# Altium footprint library PCB库.PcbLib: 17 footprints (part 1 of 2)
Each footprint in its own frame and in the unit in brackets; x right, y up, seen from the top. Pads: shape width x height; smd on the part's side, far side on the other; paste and mask are expansions set on the pad; w line width, h text height; cw(c..) or ccw(c..) is an arc to the next point about the centre after c.
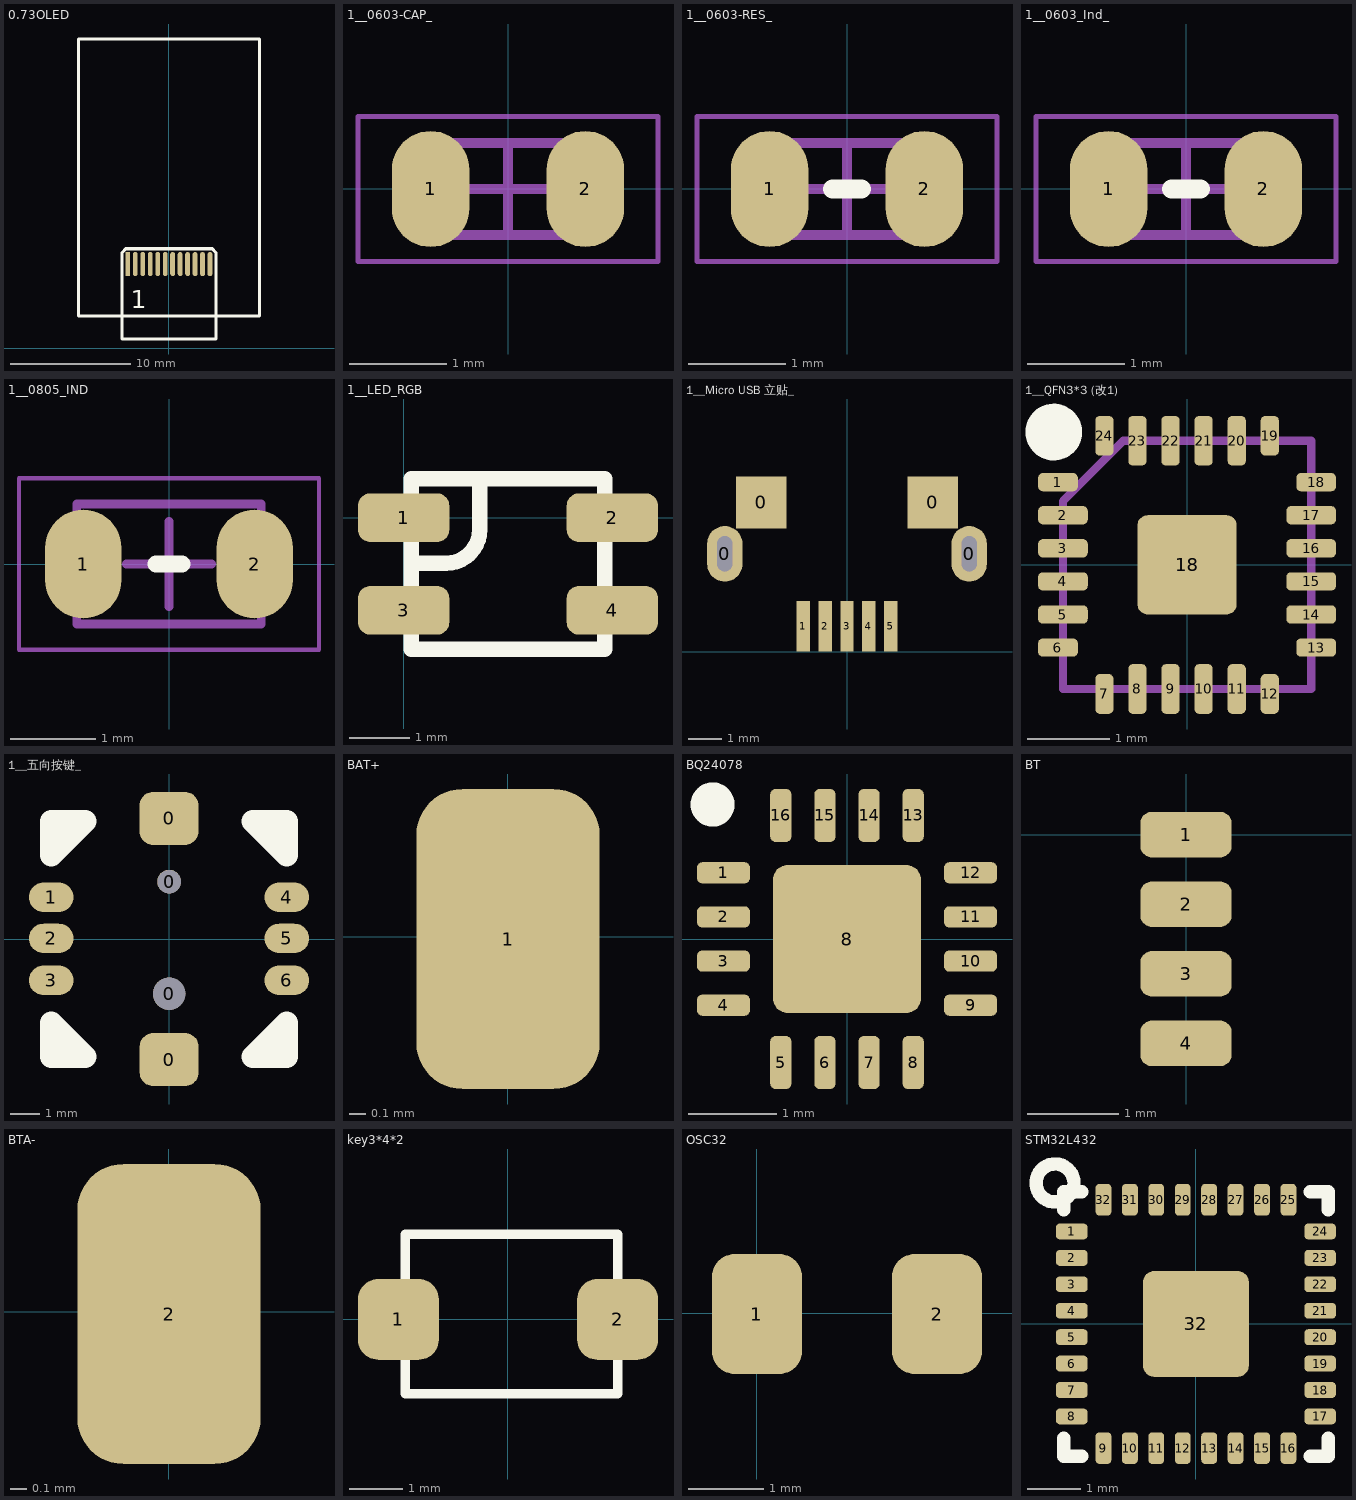
[diagram p0: the footprints below, top view; thin cyan lines are the x and y axes]

## 0.73OLED [mm]
pads (12):
  rect 0.4x2 smd: 1(-3.41,6.985)
  oval 0.4x2 smd: 2(-2.79,6.985) 3(-2.17,6.985) 4(-1.55,6.985) 5(-0.93,6.985) 6(-0.31,6.985) 7(0.31,6.985) 8(0.93,6.985) 9(1.55,6.985) 10(2.17,6.985) 11(2.79,6.985) 12(3.41,6.985)
Top Overlay:
  lines w0.254: -7.493,2.667 -7.493,25.667 7.507,25.667 7.507,2.667 -7.493,2.667 ; -3.886,0.762 -3.886,7.95 -3.581,8.255 0.007,8.255 3.595,8.255 3.9,7.95 3.9,0.762 -3.886,0.762
  text "1" at -3.175,3.302 h1.52

## 1__0603-CAP_ [mm]
pads (2):
  oval 0.8x1.2 smd: 1(-0.8,0) 2(0.8,0)
Mechanical 13:
  lines w0.1: -0.875,-0.475 0.875,-0.475 0.875,0.475 -0.875,0.475 -0.875,-0.475
Mechanical 15:
  lines w0.05: -1.55,-0.75 1.55,-0.75 1.55,0.75 -1.55,0.75 -1.55,-0.75
  lines w0.1: -0.475,0 0.475,0 ; 0,-0.475 0,0.475
3D body: height 0.85, standoff 0, extent 0.525,-0.475 0.875,0.475
3D body: height 0.85, standoff 0, extent -0.875,-0.475 -0.525,0.475
3D body: height 0.85, standoff 0, extent -0.525,-0.475 0.525,0.475

## 1__0603-RES_ [mm]
pads (2):
  oval 0.8x1.2 smd: 1(-0.8,0) 2(0.8,0)
Top Overlay:
  lines w0.2: -0.15,0 0.15,0
Mechanical 13:
  lines w0.1: -0.85,-0.475 0.85,-0.475 0.85,0.475 -0.85,0.475 -0.85,-0.475
Mechanical 15:
  lines w0.05: -1.55,-0.75 -1.55,0.75 1.55,0.75 1.55,-0.75 -1.55,-0.75
  lines w0.1: -0.475,0 0.475,0 ; 0,-0.475 0,0.475
3D body "R0603.STEP": height 0.45, standoff 0, extent -0.8,-0.4 0.8,0.4

## 1__0603_Ind_ [mm]
pads (2):
  oval 0.8x1.2 smd: 1(-0.8,0) 2(0.8,0)
Top Overlay:
  lines w0.2: -0.15,0 0.15,0
Mechanical 13:
  lines w0.1: -0.85,-0.475 0.85,-0.475 0.85,0.475 -0.85,0.475 -0.85,-0.475
Mechanical 15:
  lines w0.05: -1.55,-0.75 -1.55,0.75 1.55,0.75 1.55,-0.75 -1.55,-0.75
  lines w0.1: -0.475,0 0.475,0 ; 0,-0.475 0,0.475
3D body "R0603.STEP": height 0.45, standoff 0, extent -0.8,-0.4 0.8,0.4

## 1__0805_IND [mm]
pads (2):
  oval 0.889x1.27 smd: 1(-1,0) 2(1,0)
Top Overlay:
  lines w0.2: -0.15,0 0.15,0
Mechanical 13:
  lines w0.1: -1.075,-0.7 -1.075,0.7 1.075,0.7 1.075,-0.7 -1.075,-0.7
Mechanical 15:
  lines w0.05: -1.75,-1 -1.75,1 1.75,1 1.75,-1 -1.75,-1
  lines w0.1: -0.5,0 0.5,0 ; 0,-0.5 0,0.5
3D body "R0805.STEP": height 0.55, standoff 0, extent -1,-0.63 1,0.63

## 1__LED_RGB [mm]
pads (4):
  rrect50% 1.5x0.8 smd: 1(0,0) 2(3.429,0) 3(0,-1.524) 4(3.429,-1.524)
Top Overlay:
  lines w0.254: 0.127,-0.725 ccw(c0.152,-0.725) 0.152,-0.75 0.697,-0.75 ccw(c0.697,-0.197) 1.25,-0.197 1.25,0.635 ; 0.127,-2.159 3.302,-2.159 3.302,0.635 0.127,0.635 0.127,-2.159

## 1__Micro USB 立贴_ [mm]
height 1.5
pads (9):
  oval 1.05x1.65 hole 0.45 slot 1.05 at 90 deg: 0(-3.625,2.9) 0(3.625,2.9)
  rect 1.5x1.55 smd: 0(-2.55,4.425) 0(2.55,4.425)
  rect 0.4x1.51 smd: 1(-1.3,0.75) 2(-0.65,0.75) 3(0,0.75) 4(0.65,0.75) 5(1.3,0.75)

## 1__QFN3*3 (改1) [mm]
pads (25):
  rrect50% 0.48x0.22 smd: 1(-1.56,0.999) 6(-1.56,-0.999) 13(1.56,-0.999) 18(1.56,0.999)
  rrect50% 0.6x0.22 smd: 2(-1.5,0.6) 3(-1.5,0.2) 4(-1.5,-0.2) 5(-1.5,-0.6) 14(1.5,-0.6) 15(1.5,-0.2) 16(1.5,0.2) 17(1.5,0.6)
  rrect50% 0.22x0.48 smd: 7(-0.999,-1.56) 12(0.999,-1.56) 19(0.999,1.56) 24(-0.999,1.56)
  rrect50% 0.22x0.6 smd: 8(-0.6,-1.5) 9(-0.2,-1.5) 10(0.2,-1.5) 11(0.6,-1.5) 20(0.6,1.5) 21(0.2,1.5) 22(-0.2,1.5) 23(-0.6,1.5)
  rrect20% 1.2x1.2 smd: 18(0,0)
Top Overlay:
  circle w0.254: c-1.61,1.605 r0.128
  circle w0.254: c-1.61,1.605 r0.216
Mechanical 15:
  lines w0.1: -1.5,-1.5 0,-1.5 1.5,-1.5 1.5,0 1.5,1.5 0,1.5 -0.77,1.5 -1.5,0.77 -1.5,0 -1.5,-1.5

## 1__五向按键_ [mm]
pads (10):
  rrect50% 2x1.8 smd: 0(0,4.096) 0(0.004,-4.096)
  round 1.1 hole 1.1: 0(0.004,-1.861)
  round 0.8 hole 0.8: 0(0.004,1.949)
  oval 1.524x1 smd: 1(-4,1.419) 2(-4,0.022) 3(-4,-1.403) 4(4,1.419) 5(4,0.022) 6(4,-1.403)
Top Overlay:
  lines w0.762: -4,-4 -4,-2.85 -2.85,-4 -4,-4 ; -4,2.85 -4,4 -2.85,4 -4,2.85 ; 2.85,-4 4,-4 4,-2.85 2.85,-4 ; 2.85,4 4,2.85 4,4 2.85,4

## BAT+ [mm]
pads (1):
  rrect50% 1.1x1.8 smd: 1(0.003,-0.012)

## BQ24078 [mm] "充电芯片"
pads (17):
  rrect50% 0.6x0.24 smd: 1(-1.4,0.75) 2(-1.4,0.25) 3(-1.4,-0.25) 4(-1.4,-0.75) 9(1.4,-0.75) 10(1.4,-0.25) 11(1.4,0.25) 12(1.4,0.75)
  rrect50% 0.24x0.6 smd: 5(-0.75,-1.4) 6(-0.25,-1.4) 7(0.25,-1.4) 8(0.75,-1.4) 13(0.75,1.4) 14(0.25,1.4) 15(-0.25,1.4) 16(-0.75,1.4)
  rrect20% 1.68x1.68 smd: 8(0,0)
Top Overlay:
  circle w0.25: c-1.524,1.524 r0.125

## BT [mm]
pads (4):
  rrect50% 1x0.5 smd: 1(0,0) 2(0,-0.762) 3(0,-1.524) 4(0,-2.286)

## BTA- [mm]
pads (1):
  rrect50% 1.1x1.8 smd: 2(0.003,-0.012)

## key3*4*2 [mil]
pads (2):
  rrect50% 60x60 smd: 1(-81.24,0) 2(81.24,0)
Top Overlay:
  lines w7: -76.24,-55 81.24,-55 81.24,63.11 -76.24,63.11 -76.24,-55

## OSC32 [mm]
pads (2):
  rrect50% 1.2x1.6 smd: 1(0.003,-0.012) 2(2.403,-0.012)

## STM32L432 [mm]
pads (33):
  rrect50% 0.6x0.3 smd: 1(-2.35,1.75) 2(-2.35,1.25) 3(-2.35,0.75) 4(-2.35,0.25) 5(-2.35,-0.25) 6(-2.35,-0.75) 7(-2.35,-1.25) 8(-2.35,-1.75) 17(2.35,-1.75) 18(2.35,-1.25) 19(2.35,-0.75) 20(2.35,-0.25) 21(2.35,0.25) 22(2.35,0.75) 23(2.35,1.25) 24(2.35,1.75)
  rrect50% 0.3x0.6 smd: 9(-1.75,-2.35) 10(-1.25,-2.35) 11(-0.75,-2.35) 12(-0.25,-2.35) 13(0.25,-2.35) 14(0.75,-2.35) 15(1.25,-2.35) 16(1.75,-2.35) 25(1.75,2.35) 26(1.25,2.35) 27(0.75,2.35) 28(0.25,2.35) 29(-0.25,2.35) 30(-0.75,2.35) 31(-1.25,2.35) 32(-1.75,2.35)
  rrect20% 2x2 smd: 32(0,0)
Top Overlay:
  circle w0.254: c-2.667,2.667 r0.359
  lines w0.254: -2.5,-2.159 -2.5,-2.5 -2.159,-2.5 ; -2.5,2.159 -2.5,2.5 -2.159,2.5 ; 2.159,-2.5 2.5,-2.5 2.5,-2.159 ; 2.159,2.5 2.5,2.5 2.5,2.159